# Altium schematic symbol library STPM10.SchLib: 1 symbol
Pins are listed as number, name and electrical type; pins without a type are passive.

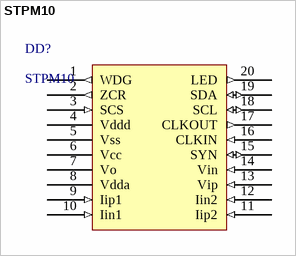
[diagram p0: symbol STPM10]

## STPM10
designator DD?
pins: 1 WDG (out), 2 ZCR (out), 3 SCS (in), 4 Vddd (power), 5 Vss (power), 6 Vcc (power), 7 Vo (power), 8 Vdda (power), 9 Iip1 (in), 10 Iin1 (in), 11 Iip2 (in), 12 Iin2 (in), 13 Vip (in), 14 Vin (in), 15 SYN (io), 16 CLKIN (in), 17 CLKOUT (out), 18 SCL (io), 19 SDA (io), 20 LED (out)